# Altium schematic symbol library U_RT8462.SchLib: 1 symbol
Pins are listed as number, name and electrical type; pins without a type are passive.

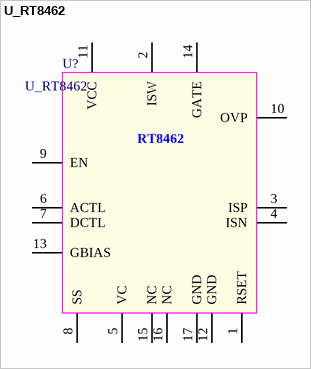
[diagram p0: symbol U_RT8462]

## U_RT8462
designator U?
footprint 16-WFQFN Exposed Pad
pins: 1 RSET "Vref", 2 ISW "PWM", 3 ISP "Sync or OPENLED", 4 ISN "SS", 5 VC "RT", 6 ACTL "SHDN or UVLO", 7 DCTL "INTVcc", 8 SS "Vin", 9 EN "Sense", 10 OVP "Gate", 11 VCC "PWMout", 12 GND "FB", 13 GBIAS "ISN", 14 GATE "ISP", 15 NC "VC", 16 NC "CTRL", 17 GND
text: RT8462